# Altium footprint library Pattern No3d 20090609.PcbLib: 323 footprints (part 8 of 22)
Each footprint in its own frame and in the unit in brackets; x right, y up, seen from the top. Pads: shape width x height; smd on the part's side, far side on the other; paste and mask are expansions set on the pad; w line width, h text height; cw(c..) or ccw(c..) is an arc to the next point about the centre after c.
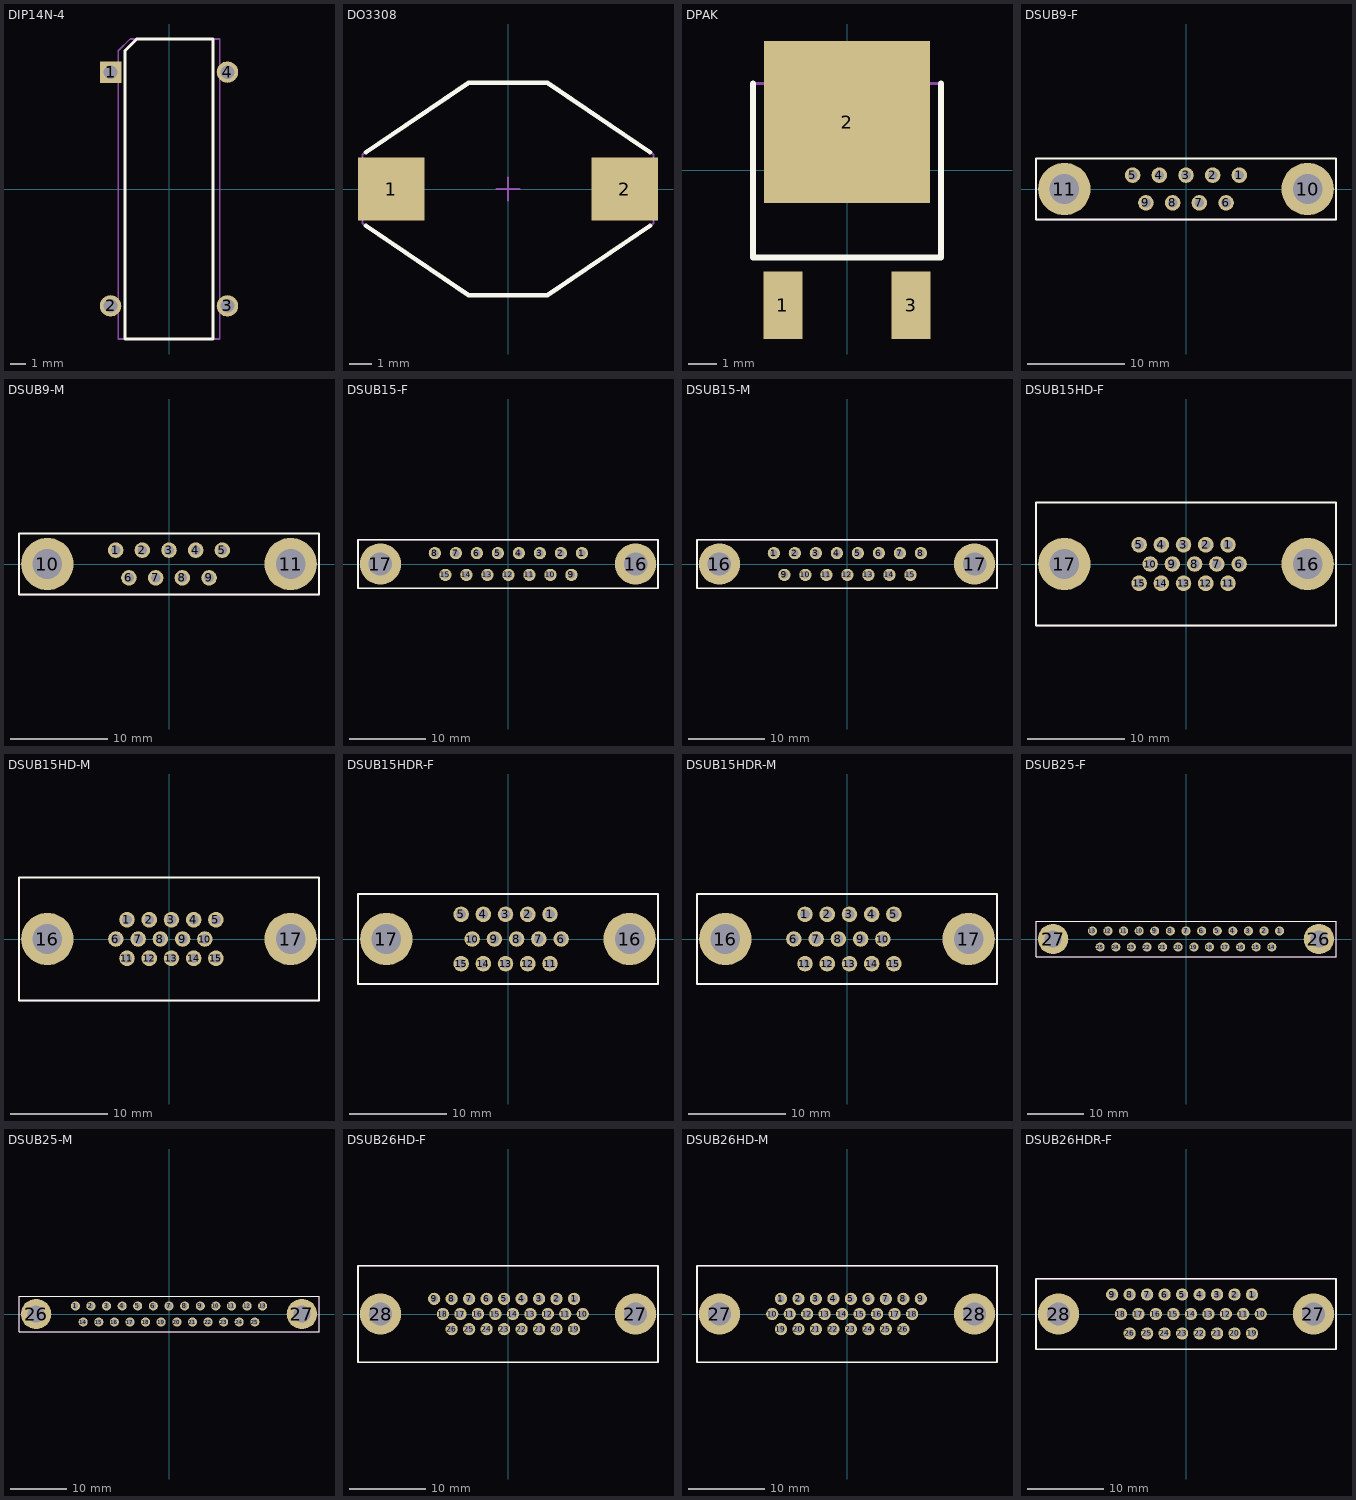
[diagram p7: the footprints below, top view; thin cyan lines are the x and y axes]

## DIP14N-4 [mil] "http://www.microem.ru/pages/sg8002/katalog_epson/TQ012-38.pdf (DIP 14-pin)"
pads (4):
  rect 55x55 hole 35 mask+4: 1(-150,300)
  round 55 hole 35 mask+4: 2(-150,-300) 3(150,-300) 4(150,300)
Top Overlay:
  lines w8: -113,-385 113,-385 113,385 -83,385 -113,355 -113,-385
Mechanical 1:
  lines w4: -130,-385 130,-385 130,385 -100,385 -130,355 -130,-385

## DO3308 [mil] "http://www.coilcraft.com/pdfs/do3308p.pdf"
pads (2):
  rect 116x110 smd mask+4: 1(-203,0) 2(203,0)
Top Overlay:
  lines w8: -247,-64 -68,-185 68,-185 247,-64 ; -247,64 -68,185 68,185 247,64
Mechanical 1:
  lines w4: -253,-60 -253,60 -68,185 68,185 253,60 253,-60 68,-185 -68,-185 -253,-60
Mechanical 15:
  lines w4: -20,0 20,0 ; 0,-20 0,20

## DPAK [mil] "http://www.nxp.com/acrobat_download/packages/SOT428.pdf"
pads (3):
  rect 55x95 smd paste-1000 mask+4: 1(-90,-189) 3(90,-189)
  rect 233x227 smd paste-1000 mask+4: 2(0,68)
Top Overlay:
  lines w8: -132,122 -132,-122 132,-122 132,122
Top Paste:
  region: 64.5,-144.5 64.5,-183.5 115.5,-183.5 115.5,-144.5
  region: 64.5,-194.5 64.5,-233.5 115.5,-233.5 115.5,-194.5
  region: -115.5,-194.5 -115.5,-233.5 -64.5,-233.5 -64.5,-194.5
  region: -115.5,-144.5 -115.5,-183.5 -64.5,-183.5 -64.5,-144.5
  region: -35.5,179.5 -35.5,140.5 35.5,140.5 35.5,179.5
  region: -114.5,179.5 -114.5,140.5 -43.5,140.5 -43.5,179.5
  region: 43.5,179.5 43.5,140.5 114.5,140.5 114.5,179.5
  region: 43.5,87.5 43.5,48.5 114.5,48.5 114.5,87.5
  region: -114.5,87.5 -114.5,48.5 -43.5,48.5 -43.5,87.5
  region: -35.5,87.5 -35.5,48.5 35.5,48.5 35.5,87.5
  region: -35.5,-4.5 -35.5,-43.5 35.5,-43.5 35.5,-4.5
  region: -114.5,-4.5 -114.5,-43.5 -43.5,-43.5 -43.5,-4.5
  region: 43.5,-4.5 43.5,-43.5 114.5,-43.5 114.5,-4.5
Mechanical 1:
  lines w4: -132,-122 132,-122 132,122 -132,122 -132,-122
Mechanical 15:
  lines w4: -20,0 20,0 ; 0,-20 0,20

## DSUB9-F [mil] "http://www.jst-mfg.com/product/pdf/eng/eD-J.pdf"
pads (11):
  round 63 / inner round 63 / far side oval 63x83 hole 39 mask+4: 1(216,56) 2(108,56) 3(0,56) 4(-108,56) 5(-216,56) 6(162,-56) 7(54,-56) 8(-54,-56) 9(-162,-56)
  round 212 hole 120 mask+4: 10(492,0) 11(-492,0)
Top Overlay:
  lines w8: -607,-124 -607,124 607,124 607,-124 -607,-124
Mechanical 1:
  lines w4: -607,-124 -607,124 607,124 607,-124 -607,-124

## DSUB9-M [mil] "http://www.jst-mfg.com/product/pdf/eng/eD-J.pdf"
pads (11):
  round 63 / inner round 63 / far side oval 63x83 hole 39 mask+4: 1(-216,56) 2(-108,56) 3(0,56) 4(108,56) 5(216,56) 6(-162,-56) 7(-54,-56) 8(54,-56) 9(162,-56)
  round 212 hole 120 mask+4: 10(-492,0) 11(492,0)
Top Overlay:
  lines w8: -607,-124 -607,124 607,124 607,-124 -607,-124
Mechanical 1:
  lines w4: -607,-124 -607,124 607,124 607,-124 -607,-124

## DSUB15-F [mil] "http://www.jst-mfg.com/product/pdf/eng/eD-J.pdf"
pads (17):
  round 63 / inner round 63 / far side oval 63x83 hole 39 mask+4: 1(378,56) 2(270,56) 3(162,56) 4(54,56) 5(-54,56) 6(-162,56) 7(-270,56) 8(-378,56) 9(324,-56) 10(216,-56) 11(108,-56) 12(0,-56) 13(-108,-56) 14(-216,-56) 15(-324,-56)
  round 212 hole 120 mask+4: 16(654,0) 17(-658,0)
Top Overlay:
  lines w8: -773,-124 -773,124 769,124 769,-124 -773,-124
Mechanical 1:
  lines w4: -773,-124 -773,124 769,124 769,-124 -773,-124

## DSUB15-M [mil] "http://www.jst-mfg.com/product/pdf/eng/eD-J.pdf"
pads (17):
  round 63 / inner round 63 / far side oval 63x83 hole 39 mask+4: 1(-378,56) 2(-270,56) 3(-162,56) 4(-54,56) 5(54,56) 6(162,56) 7(270,56) 8(378,56) 9(-324,-56) 10(-216,-56) 11(-108,-56) 12(0,-56) 13(108,-56) 14(216,-56) 15(324,-56)
  round 212 hole 120 mask+4: 16(-658,0) 17(654,0)
Top Overlay:
  lines w8: -773,-124 769,-124 769,124 -773,124 -773,-124
Mechanical 1:
  lines w4: -773,-124 769,-124 769,124 -773,124 -773,-124

## DSUB15HD-F [mil] "http://www.jst-mfg.com/product/pdf/eng/eD-JK.pdf"
pads (17):
  round 63 hole 39 mask+4: 1(170,78) 2(80,78) 3(-10,78) 4(-100,78) 5(-190,78) 6(215,0) 7(125,0) 8(35,0) 9(-55,0) 10(-145,0) 11(170,-78) 12(80,-78) 13(-10,-78) 14(-100,-78) 15(-190,-78)
  round 212 hole 120 mask+4: 16(492,0) 17(-492,0)
Top Overlay:
  lines w8: -607,-249 -607,249 607,249 607,-249 -607,-249
Mechanical 1:
  lines w4: -607,-249 -607,249 607,249 607,-249 -607,-249

## DSUB15HD-M [mil] "http://www.jst-mfg.com/product/pdf/eng/eD-JK.pdf"
pads (17):
  round 63 hole 39 mask+4: 1(-170,78) 2(-80,78) 3(10,78) 4(100,78) 5(190,78) 6(-215,0) 7(-125,0) 8(-35,0) 9(55,0) 10(145,0) 11(-170,-78) 12(-80,-78) 13(10,-78) 14(100,-78) 15(190,-78)
  round 212 hole 120 mask+4: 16(-492,0) 17(492,0)
Top Overlay:
  lines w8: -607,-249 607,-249 607,249 -607,249 -607,-249
Mechanical 1:
  lines w4: -607,-249 607,-249 607,249 -607,249 -607,-249

## DSUB15HDR-F [mil] "http://www.jst-mfg.com/product/pdf/eng/eD-JK.pdf"
pads (17):
  round 63 hole 39 mask+4: 1(170,100) 2(80,100) 3(-10,100) 4(-100,100) 5(-190,100) 6(215,0) 7(125,0) 8(35,0) 9(-55,0) 10(-145,0) 11(170,-100) 12(80,-100) 13(-10,-100) 14(-100,-100) 15(-190,-100)
  round 212 hole 120 mask+4: 16(492,0) 17(-492,0)
Top Overlay:
  lines w8: -607,-182 -607,182 607,182 607,-182 -607,-182
Mechanical 1:
  lines w4: -607,-182 -607,182 607,182 607,-182 -607,-182

## DSUB15HDR-M [mil] "http://www.jst-mfg.com/product/pdf/eng/eD-JK.pdf"
pads (17):
  round 63 hole 39 mask+4: 1(-170,100) 2(-80,100) 3(10,100) 4(100,100) 5(190,100) 6(-215,0) 7(-125,0) 8(-35,0) 9(55,0) 10(145,0) 11(-170,-100) 12(-80,-100) 13(10,-100) 14(100,-100) 15(190,-100)
  round 212 hole 120 mask+4: 16(-492,0) 17(492,0)
Top Overlay:
  lines w8: -607,-182 -607,182 607,182 607,-182 -607,-182
Mechanical 1:
  lines w4: -607,-182 -607,182 607,182 607,-182 -607,-182

## DSUB25-F [mil] "http://www.jst-mfg.com/product/pdf/eng/eD-J.pdf"
pads (27):
  round 63 / inner round 63 / far side oval 63x83 hole 39 mask+4: 1(652,56) 2(544,56) 3(435,56) 4(326,56) 5(218,56) 6(109,56) 7(0,56) 8(-109,56) 9(-218,56) 10(-326,56) 11(-435,56) 12(-544,56) 13(-652,56) 14(598,-56) 15(489,-56) 16(381,-56) 17(272,-56) 18(163,-56) 19(55,-56) 20(-55,-56) 21(-163,-56) 22(-272,-56) 23(-381,-56) 24(-489,-56) 25(-598,-56)
  round 212 hole 120 mask+4: 26(926,0) 27(-926,0)
Top Overlay:
  lines w8: -1045,-124 -1045,124 1045,124 1045,-124 -1045,-124
Mechanical 1:
  lines w4: -1045,-124 -1045,124 1045,124 1045,-124 -1045,-124

## DSUB25-M [mil] "http://www.jst-mfg.com/product/pdf/eng/eD-J.pdf"
pads (27):
  round 63 / inner round 63 / far side oval 63x83 hole 39 mask+4: 1(-652,56) 2(-544,56) 3(-435,56) 4(-326,56) 5(-218,56) 6(-109,56) 7(0,56) 8(109,56) 9(218,56) 10(326,56) 11(435,56) 12(544,56) 13(652,56) 14(-598,-56) 15(-489,-56) 16(-381,-56) 17(-272,-56) 18(-163,-56) 19(-55,-56) 20(55,-56) 21(163,-56) 22(272,-56) 23(381,-56) 24(489,-56) 25(598,-56)
  round 212 hole 120 mask+4: 26(-926,0) 27(926,0)
Top Overlay:
  lines w8: -1045,-124 -1045,124 1045,124 1045,-124 -1045,-124
Mechanical 1:
  lines w4: -1045,-124 -1045,124 1045,124 1045,-124 -1045,-124

## DSUB26HD-F [mil] "http://www.jst-mfg.com/product/pdf/eng/eD-JK.pdf"
pads (28):
  round 63 hole 39 mask+4: 1(340,78) 2(250,78) 3(160,78) 4(70,78) 5(-20,78) 6(-110,78) 7(-200,78) 8(-290,78) 9(-380,78) 10(385,0) 11(295,0) 12(205,0) 13(115,0) 14(25,0) 15(-65,0) 16(-155,0) 17(-245,0) 18(-335,0) 19(340,-78) 20(250,-78) 21(160,-78) 22(70,-78) 23(-20,-78) 24(-110,-78) 25(-200,-78) 26(-290,-78)
  round 212 hole 120 mask+4: 27(656,0) 28(-656,0)
Top Overlay:
  lines w8: -772,-249 772,-249 772,249 -772,249 -772,-249
Mechanical 1:
  lines w4: -772,-249 772,-249 772,249 -772,249 -772,-249

## DSUB26HD-M [mil] "http://www.jst-mfg.com/product/pdf/eng/eD-JK.pdf"
pads (28):
  round 63 hole 39 mask+4: 1(-340,78) 2(-250,78) 3(-160,78) 4(-70,78) 5(20,78) 6(110,78) 7(200,78) 8(290,78) 9(380,78) 10(-385,0) 11(-295,0) 12(-205,0) 13(-115,0) 14(-25,0) 15(65,0) 16(155,0) 17(245,0) 18(335,0) 19(-340,-78) 20(-250,-78) 21(-160,-78) 22(-70,-78) 23(20,-78) 24(110,-78) 25(200,-78) 26(290,-78)
  round 212 hole 120 mask+4: 27(-656,0) 28(656,0)
Top Overlay:
  lines w8: -772,-249 772,-249 772,249 -772,249 -772,-249
Mechanical 1:
  lines w4: -772,-249 772,-249 772,249 -772,249 -772,-249

## DSUB26HDR-F [mil] "http://www.jst-mfg.com/product/pdf/eng/eD-JK.pdf"
pads (28):
  round 63 hole 39 mask+4: 1(340,100) 2(250,100) 3(160,100) 4(70,100) 5(-20,100) 6(-110,100) 7(-200,100) 8(-290,100) 9(-380,100) 10(385,0) 11(295,0) 12(205,0) 13(115,0) 14(25,0) 15(-65,0) 16(-155,0) 17(-245,0) 18(-335,0) 19(340,-100) 20(250,-100) 21(160,-100) 22(70,-100) 23(-20,-100) 24(-110,-100) 25(-200,-100) 26(-290,-100)
  round 212 hole 120 mask+4: 27(656,0) 28(-656,0)
Top Overlay:
  lines w8: -772,-182 -772,182 772,182 772,-182 -772,-182
Mechanical 1:
  lines w4: -772,-182 -772,182 772,182 772,-182 -772,-182